# Altium integrated library NSC LDO.IntLib: 2590 symbols (part 35 of 64)
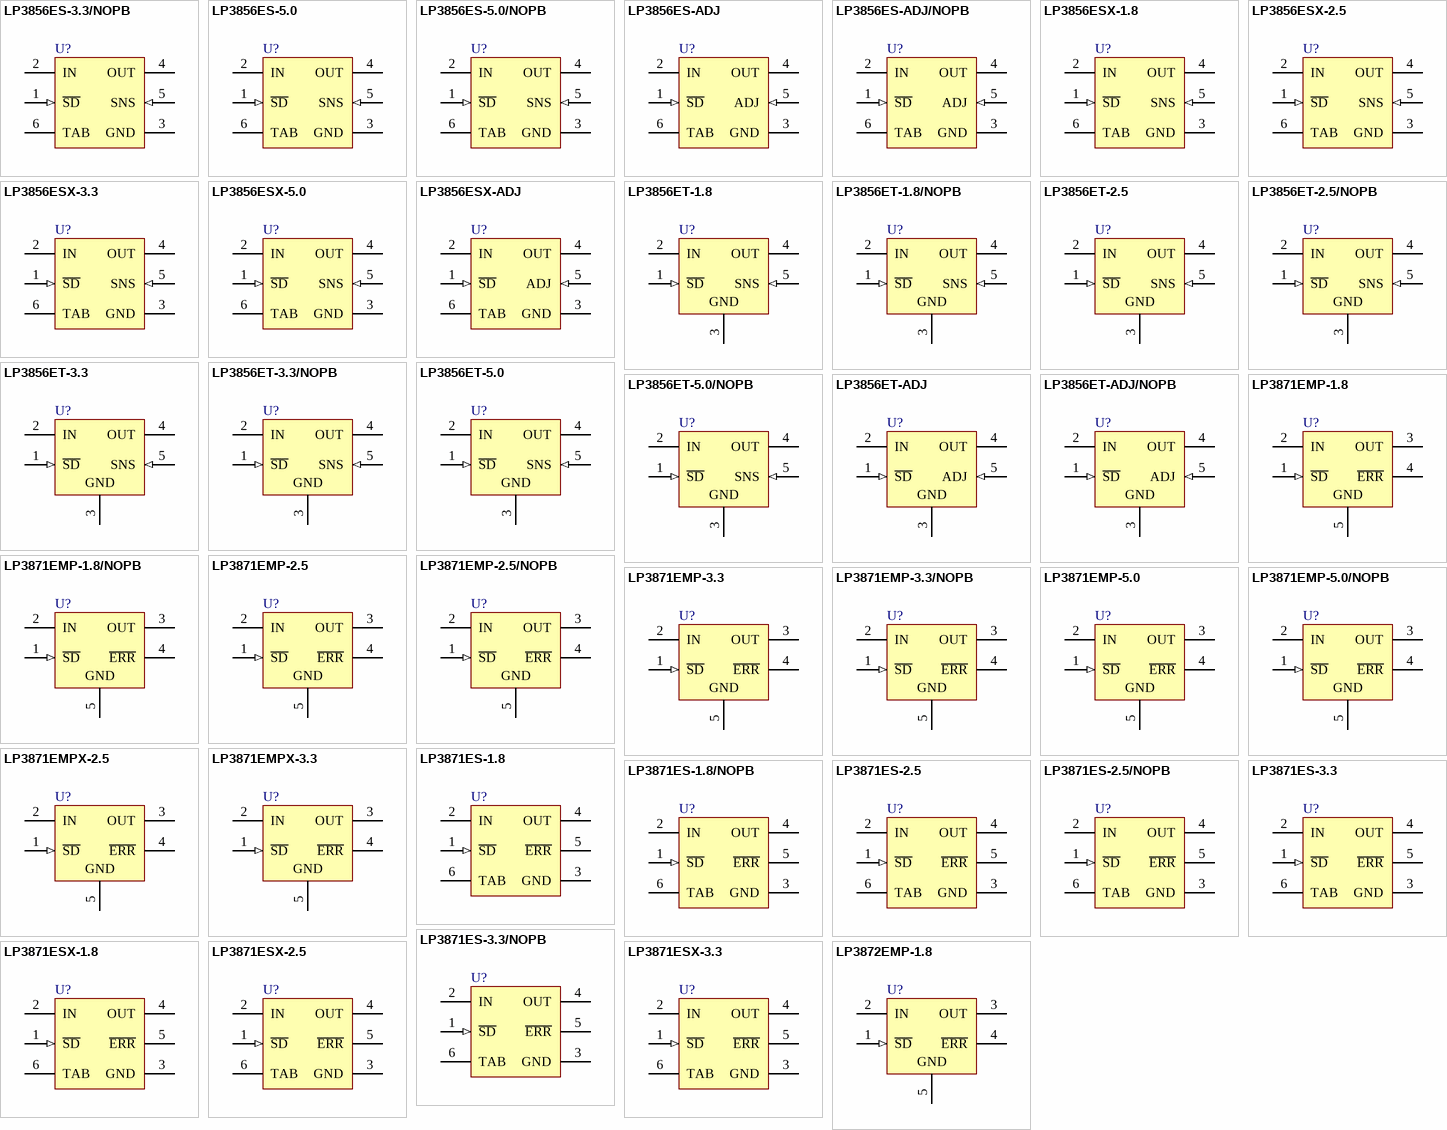
[diagram p99: symbols LP3856ES-3.3/NOPB to LP3872EMP-1.8]

## LP3871EMP-1.8
designator U?
0.8A Fast Ultra Low Dropout Linear Regulators, 5-pin SOT-223; PartNumber: LP3871EMP-1.8; Manufacturer: National Semiconductor; PackageTopMarking: XYTT*LH6B; PowerWise: N; CompType: LDO IC; Published: 4-Dec-2008; DatasheetVersion: Sep-2006; PackageVersion: revA, Jan-2000; PackageReference: MP05A; Publisher: Altium Limited; PackageDescription: Moldec SOT-223, 6.50 x 3.56 x 1.6mm Body, 5 Lead, 1.5mm Pitch; Supplier 1: Farnell; Supplier Part Number 1: 8188220; RoHS: N; PinCount: 5; Code_JEDEC: TO-261-AB; Code_IPC: SOT223-5; ComponentLink1Description: LP3871 Datasheet; ComponentLink1URL: http://www.national.com/ds/LP/LP3871.pdf; ComponentLink2Description: LP3871 Web Page; ComponentLink2URL: http://www.national.com/pf/LP/LP3871.html; ComponentLink3Description: MP05A Package Page; ComponentLink3URL: http://www.national.com/packaging/folders/mp05a.html
footprint MP05A_N (SOT223, 5-Leads, Body 6.5x3.5mm, Pitch 1.5mm, Lead Span 7mm, IPC Medium Density)
footprint MP05A_L (SOT223, 5-Leads, Body 6.5x3.5mm, Pitch 1.5mm, Lead Span 7mm, IPC High Density)
footprint MP05A_M (SOT223, 5-Leads, Body 6.5x3.5mm, Pitch 1.5mm, Lead Span 7mm, IPC Low Density)
pins: 1 ~{SD} (in), 2 IN (power), 3 OUT (power), 4 ~{ERR} (oc), 5 GND (power)

## LP3871EMP-1.8/NOPB
designator U?
0.8A Fast Ultra Low Dropout Linear Regulators, 5-pin SOT-223, Pb-Free; PartNumber: LP3871EMP-1.8/NOPB; Manufacturer: National Semiconductor; PackageTopMarking: XYTT*LH6B; PowerWise: N; CompType: LDO IC; Published: 1-Mar-2010; DatasheetVersion: Sep-2006; PackageVersion: revA, Jan-2000; PackageReference: MP05A; Publisher: Altium Limited; PackageDescription: Moldec SOT-223, 6.50 x 3.56 x 1.6mm Body, 5 Lead, 1.5mm Pitch; Supplier 1: Digi-Key; Supplier Part Number 1: LP3871EMP-1.8TR-ND; Supplier 2: Digi-Key; Supplier Part Number 2: LP3871EMP-1.8CT-ND; Supplier 3: Digi-Key; Supplier Part Number 3: LP3871EMP-1.8DKR-ND; Supplier 4: Farnell; Supplier Part Number 4: 1685721; RoHS: Y; PinCount: 5; Code_JEDEC: TO-261-AB; Code_IPC: SOT223-5; ComponentLink1Description: LP3871 Datasheet; ComponentLink1URL: http://www.national.com/ds/LP/LP3871.pdf; ComponentLink2Description: LP3871 Web Page; ComponentLink2URL: http://www.national.com/pf/LP/LP3871.html; ComponentLink3Description: MP05A Package Page; ComponentLink3URL: http://www.national.com/packaging/folders/mp05a.html
footprint MP05A_N (SOT223, 5-Leads, Body 6.5x3.5mm, Pitch 1.5mm, Lead Span 7mm, IPC Medium Density)
footprint MP05A_L (SOT223, 5-Leads, Body 6.5x3.5mm, Pitch 1.5mm, Lead Span 7mm, IPC High Density)
footprint MP05A_M (SOT223, 5-Leads, Body 6.5x3.5mm, Pitch 1.5mm, Lead Span 7mm, IPC Low Density)
pins: 1 ~{SD} (in), 2 IN (power), 3 OUT (power), 4 ~{ERR} (oc), 5 GND (power)

## LP3871EMP-2.5
designator U?
0.8A Fast Ultra Low Dropout Linear Regulators, 5-pin SOT-223; PartNumber: LP3871EMP-2.5; Manufacturer: National Semiconductor; PackageTopMarking: XYTT*LH7B; PowerWise: N; CompType: LDO IC; Published: 4-Dec-2008; DatasheetVersion: Sep-2006; PackageVersion: revA, Jan-2000; PackageReference: MP05A; Publisher: Altium Limited; PackageDescription: Moldec SOT-223, 6.50 x 3.56 x 1.6mm Body, 5 Lead, 1.5mm Pitch; Supplier 1: Farnell; Supplier Part Number 1: 8188238; RoHS: N; PinCount: 5; Code_JEDEC: TO-261-AB; Code_IPC: SOT223-5; ComponentLink1Description: LP3871 Datasheet; ComponentLink1URL: http://www.national.com/ds/LP/LP3871.pdf; ComponentLink2Description: LP3871 Web Page; ComponentLink2URL: http://www.national.com/pf/LP/LP3871.html; ComponentLink3Description: MP05A Package Page; ComponentLink3URL: http://www.national.com/packaging/folders/mp05a.html
footprint MP05A_N (SOT223, 5-Leads, Body 6.5x3.5mm, Pitch 1.5mm, Lead Span 7mm, IPC Medium Density)
footprint MP05A_L (SOT223, 5-Leads, Body 6.5x3.5mm, Pitch 1.5mm, Lead Span 7mm, IPC High Density)
footprint MP05A_M (SOT223, 5-Leads, Body 6.5x3.5mm, Pitch 1.5mm, Lead Span 7mm, IPC Low Density)
pins: 1 ~{SD} (in), 2 IN (power), 3 OUT (power), 4 ~{ERR} (oc), 5 GND (power)

## LP3871EMP-2.5/NOPB
designator U?
0.8A Fast Ultra Low Dropout Linear Regulators, 5-pin SOT-223, Pb-Free; PartNumber: LP3871EMP-2.5/NOPB; Manufacturer: National Semiconductor; PackageTopMarking: XYTT*LH7B; PowerWise: N; CompType: LDO IC; Published: 1-Mar-2010; DatasheetVersion: Sep-2006; PackageVersion: revA, Jan-2000; PackageReference: MP05A; Publisher: Altium Limited; PackageDescription: Moldec SOT-223, 6.50 x 3.56 x 1.6mm Body, 5 Lead, 1.5mm Pitch; Supplier 1: Digi-Key; Supplier Part Number 1: LP3871EMP-2.5TR-ND; Supplier 2: Digi-Key; Supplier Part Number 2: LP3871EMP-2.5CT-ND; Supplier 3: Digi-Key; Supplier Part Number 3: LP3871EMP-2.5DKR-ND; RoHS: Y; PinCount: 5; Code_JEDEC: TO-261-AB; Code_IPC: SOT223-5; ComponentLink1Description: LP3871 Datasheet; ComponentLink1URL: http://www.national.com/ds/LP/LP3871.pdf; ComponentLink2Description: LP3871 Web Page; ComponentLink2URL: http://www.national.com/pf/LP/LP3871.html; ComponentLink3Description: MP05A Package Page; ComponentLink3URL: http://www.national.com/packaging/folders/mp05a.html
footprint MP05A_N (SOT223, 5-Leads, Body 6.5x3.5mm, Pitch 1.5mm, Lead Span 7mm, IPC Medium Density)
footprint MP05A_L (SOT223, 5-Leads, Body 6.5x3.5mm, Pitch 1.5mm, Lead Span 7mm, IPC High Density)
footprint MP05A_M (SOT223, 5-Leads, Body 6.5x3.5mm, Pitch 1.5mm, Lead Span 7mm, IPC Low Density)
pins: 1 ~{SD} (in), 2 IN (power), 3 OUT (power), 4 ~{ERR} (oc), 5 GND (power)

## LP3871EMP-3.3
designator U?
0.8A Fast Ultra Low Dropout Linear Regulators, 5-pin SOT-223; PartNumber: LP3871EMP-3.3; Manufacturer: National Semiconductor; PackageTopMarking: XYTT*LH8B; PowerWise: N; CompType: LDO IC; Published: 4-Dec-2008; DatasheetVersion: Sep-2006; PackageVersion: revA, Jan-2000; PackageReference: MP05A; Publisher: Altium Limited; PackageDescription: Moldec SOT-223, 6.50 x 3.56 x 1.6mm Body, 5 Lead, 1.5mm Pitch; Supplier 1: Farnell; Supplier Part Number 1: 8188246; RoHS: N; PinCount: 5; Code_JEDEC: TO-261-AB; Code_IPC: SOT223-5; ComponentLink1Description: LP3871 Datasheet; ComponentLink1URL: http://www.national.com/ds/LP/LP3871.pdf; ComponentLink2Description: LP3871 Web Page; ComponentLink2URL: http://www.national.com/pf/LP/LP3871.html; ComponentLink3Description: MP05A Package Page; ComponentLink3URL: http://www.national.com/packaging/folders/mp05a.html
footprint MP05A_N (SOT223, 5-Leads, Body 6.5x3.5mm, Pitch 1.5mm, Lead Span 7mm, IPC Medium Density)
footprint MP05A_L (SOT223, 5-Leads, Body 6.5x3.5mm, Pitch 1.5mm, Lead Span 7mm, IPC High Density)
footprint MP05A_M (SOT223, 5-Leads, Body 6.5x3.5mm, Pitch 1.5mm, Lead Span 7mm, IPC Low Density)
pins: 1 ~{SD} (in), 2 IN (power), 3 OUT (power), 4 ~{ERR} (oc), 5 GND (power)

## LP3871EMP-3.3/NOPB
designator U?
0.8A Fast Ultra Low Dropout Linear Regulators, 5-pin SOT-223, Pb-Free; PartNumber: LP3871EMP-3.3/NOPB; Manufacturer: National Semiconductor; PackageTopMarking: XYTT*LH8B; PowerWise: N; CompType: LDO IC; Published: 1-Mar-2010; DatasheetVersion: Sep-2006; PackageVersion: revA, Jan-2000; PackageReference: MP05A; Publisher: Altium Limited; PackageDescription: Moldec SOT-223, 6.50 x 3.56 x 1.6mm Body, 5 Lead, 1.5mm Pitch; Supplier 1: Digi-Key; Supplier Part Number 1: LP3871EMP-3.3TR-ND; Supplier 2: Digi-Key; Supplier Part Number 2: LP3871EMP-3.3CT-ND; Supplier 3: Digi-Key; Supplier Part Number 3: LP3871EMP-3.3DKR-ND; Supplier 4: Farnell; Supplier Part Number 4: 1559654; RoHS: Y; PinCount: 5; Code_JEDEC: TO-261-AB; Code_IPC: SOT223-5; ComponentLink1Description: LP3871 Datasheet; ComponentLink1URL: http://www.national.com/ds/LP/LP3871.pdf; ComponentLink2Description: LP3871 Web Page; ComponentLink2URL: http://www.national.com/pf/LP/LP3871.html; ComponentLink3Description: MP05A Package Page; ComponentLink3URL: http://www.national.com/packaging/folders/mp05a.html
footprint MP05A_N (SOT223, 5-Leads, Body 6.5x3.5mm, Pitch 1.5mm, Lead Span 7mm, IPC Medium Density)
footprint MP05A_L (SOT223, 5-Leads, Body 6.5x3.5mm, Pitch 1.5mm, Lead Span 7mm, IPC High Density)
footprint MP05A_M (SOT223, 5-Leads, Body 6.5x3.5mm, Pitch 1.5mm, Lead Span 7mm, IPC Low Density)
pins: 1 ~{SD} (in), 2 IN (power), 3 OUT (power), 4 ~{ERR} (oc), 5 GND (power)

## LP3871EMP-5.0
designator U?
0.8A Fast Ultra Low Dropout Linear Regulators, 5-pin SOT-223; PartNumber: LP3871EMP-5.0; Manufacturer: National Semiconductor; PackageTopMarking: XYTT*LH9B; PowerWise: N; CompType: LDO IC; Published: 4-Dec-2008; DatasheetVersion: Sep-2006; PackageVersion: revA, Jan-2000; PackageReference: MP05A; Publisher: Altium Limited; PackageDescription: Moldec SOT-223, 6.50 x 3.56 x 1.6mm Body, 5 Lead, 1.5mm Pitch; Supplier 1: Digi-Key; Supplier Part Number 1: LP3871EMP-5.0TR-ND; Supplier 2: Digi-Key; Supplier Part Number 2: LP3871EMP-5.0CT-ND; Supplier 3: Digi-Key; Supplier Part Number 3: LP3871EMP-5.0DKR-ND; Supplier 4: Farnell; Supplier Part Number 4: 1008285; RoHS: Y; PinCount: 5; Code_JEDEC: TO-261-AB; Code_IPC: SOT223-5; ComponentLink1Description: LP3871 Datasheet; ComponentLink1URL: http://www.national.com/ds/LP/LP3871.pdf; ComponentLink2Description: LP3871 Web Page; ComponentLink2URL: http://www.national.com/pf/LP/LP3871.html; ComponentLink3Description: MP05A Package Page; ComponentLink3URL: http://www.national.com/packaging/folders/mp05a.html
footprint MP05A_N (SOT223, 5-Leads, Body 6.5x3.5mm, Pitch 1.5mm, Lead Span 7mm, IPC Medium Density)
footprint MP05A_L (SOT223, 5-Leads, Body 6.5x3.5mm, Pitch 1.5mm, Lead Span 7mm, IPC High Density)
footprint MP05A_M (SOT223, 5-Leads, Body 6.5x3.5mm, Pitch 1.5mm, Lead Span 7mm, IPC Low Density)
pins: 1 ~{SD} (in), 2 IN (power), 3 OUT (power), 4 ~{ERR} (oc), 5 GND (power)

## LP3871EMP-5.0/NOPB
designator U?
0.8A Fast Ultra Low Dropout Linear Regulators, 5-pin SOT-223, Pb-Free; PartNumber: LP3871EMP-5.0/NOPB; Manufacturer: National Semiconductor; PackageTopMarking: XYTT*LH9B; PowerWise: N; CompType: LDO IC; Published: 1-Mar-2010; DatasheetVersion: Sep-2006; PackageVersion: revA, Jan-2000; PackageReference: MP05A; Publisher: Altium Limited; PackageDescription: Moldec SOT-223, 6.50 x 3.56 x 1.6mm Body, 5 Lead, 1.5mm Pitch; RoHS: Y; PinCount: 5; Code_JEDEC: TO-261-AB; Code_IPC: SOT223-5; ComponentLink1Description: LP3871 Datasheet; ComponentLink1URL: http://www.national.com/ds/LP/LP3871.pdf; ComponentLink2Description: LP3871 Web Page; ComponentLink2URL: http://www.national.com/pf/LP/LP3871.html; ComponentLink3Description: MP05A Package Page; ComponentLink3URL: http://www.national.com/packaging/folders/mp05a.html
footprint MP05A_N (SOT223, 5-Leads, Body 6.5x3.5mm, Pitch 1.5mm, Lead Span 7mm, IPC Medium Density)
footprint MP05A_L (SOT223, 5-Leads, Body 6.5x3.5mm, Pitch 1.5mm, Lead Span 7mm, IPC High Density)
footprint MP05A_M (SOT223, 5-Leads, Body 6.5x3.5mm, Pitch 1.5mm, Lead Span 7mm, IPC Low Density)
pins: 1 ~{SD} (in), 2 IN (power), 3 OUT (power), 4 ~{ERR} (oc), 5 GND (power)

## LP3871EMPX-2.5
designator U?
0.8A Fast Ultra Low Dropout Linear Regulators, 5-pin SOT-223; PartNumber: LP3871EMPX-2.5; Manufacturer: National Semiconductor; PackageTopMarking: XYTT*LH7B; PowerWise: N; CompType: LDO IC; Published: 1-Mar-2010; DatasheetVersion: Sep-2006; PackageVersion: revA, Jan-2000; PackageReference: MP05A; Publisher: Altium Limited; PackageDescription: Moldec SOT-223, 6.50 x 3.56 x 1.6mm Body, 5 Lead, 1.5mm Pitch; RoHS: N; PinCount: 5; Code_JEDEC: TO-261-AB; Code_IPC: SOT223-5; ComponentLink1Description: LP3871 Datasheet; ComponentLink1URL: http://www.national.com/ds/LP/LP3871.pdf; ComponentLink2Description: LP3871 Web Page; ComponentLink2URL: http://www.national.com/pf/LP/LP3871.html; ComponentLink3Description: MP05A Package Page; ComponentLink3URL: http://www.national.com/packaging/folders/mp05a.html
footprint MP05A_N (SOT223, 5-Leads, Body 6.5x3.5mm, Pitch 1.5mm, Lead Span 7mm, IPC Medium Density)
footprint MP05A_L (SOT223, 5-Leads, Body 6.5x3.5mm, Pitch 1.5mm, Lead Span 7mm, IPC High Density)
footprint MP05A_M (SOT223, 5-Leads, Body 6.5x3.5mm, Pitch 1.5mm, Lead Span 7mm, IPC Low Density)
pins: 1 ~{SD} (in), 2 IN (power), 3 OUT (power), 4 ~{ERR} (oc), 5 GND (power)

## LP3871EMPX-3.3
designator U?
0.8A Fast Ultra Low Dropout Linear Regulators, 5-pin SOT-223; PartNumber: LP3871EMPX-3.3; Manufacturer: National Semiconductor; PackageTopMarking: XYTT*LH8B; PowerWise: N; CompType: LDO IC; Published: 1-Mar-2010; DatasheetVersion: Sep-2006; PackageVersion: revA, Jan-2000; PackageReference: MP05A; Publisher: Altium Limited; PackageDescription: Moldec SOT-223, 6.50 x 3.56 x 1.6mm Body, 5 Lead, 1.5mm Pitch; RoHS: N; PinCount: 5; Code_JEDEC: TO-261-AB; Code_IPC: SOT223-5; ComponentLink1Description: LP3871 Datasheet; ComponentLink1URL: http://www.national.com/ds/LP/LP3871.pdf; ComponentLink2Description: LP3871 Web Page; ComponentLink2URL: http://www.national.com/pf/LP/LP3871.html; ComponentLink3Description: MP05A Package Page; ComponentLink3URL: http://www.national.com/packaging/folders/mp05a.html
footprint MP05A_N (SOT223, 5-Leads, Body 6.5x3.5mm, Pitch 1.5mm, Lead Span 7mm, IPC Medium Density)
footprint MP05A_L (SOT223, 5-Leads, Body 6.5x3.5mm, Pitch 1.5mm, Lead Span 7mm, IPC High Density)
footprint MP05A_M (SOT223, 5-Leads, Body 6.5x3.5mm, Pitch 1.5mm, Lead Span 7mm, IPC Low Density)
pins: 1 ~{SD} (in), 2 IN (power), 3 OUT (power), 4 ~{ERR} (oc), 5 GND (power)

## LP3871ES-1.8
designator U?
0.8A Fast Ultra Low Dropout Linear Regulators, 5-pin TO-263; PartNumber: LP3871ES-1.8; Manufacturer: National Semiconductor; PackageTopMarking: NSUZXYTTE#*LP3871ES*-1.8; PowerWise: N; CompType: LDO IC; Published: 4-Dec-2008; DatasheetVersion: Sep-2006; PackageVersion: revD, Apr-2005; PackageReference: TS5B; Publisher: Altium Limited; PackageDescription: TO-263, Molded, .400 x .390 x .180in, 5 Lead, .067in Pitch, Surface Mount; Supplier 1: Farnell; Supplier Part Number 1: 8188254; RoHS: N; PinCount: 5; Code_JEDEC: MO-169-AB; ComponentLink1Description: LP3871 Datasheet; ComponentLink1URL: http://www.national.com/ds/LP/LP3871.pdf; ComponentLink2Description: LP3871 Web Page; ComponentLink2URL: http://www.national.com/pf/LP/LP3871.html; ComponentLink3Description: TS5B Package Page; ComponentLink3URL: http://www.national.com/packaging/folders/ts5b.html
footprint TS5B_N (D2-PAK, 6-Leads, Body 8.6x10.2mm, Pitch 1.7mm, Lead Span 14.1mm, IPC Medium Density)
footprint TS5B_L (D2-PAK, 6-Leads, Body 8.6x10.2mm, Pitch 1.7mm, Lead Span 14.1mm, IPC High Density)
footprint TS5B_M (D2-PAK, 6-Leads, Body 8.6x10.2mm, Pitch 1.7mm, Lead Span 14.1mm, IPC Low Density)
pins: 1 ~{SD} (in), 2 IN (power), 3 GND (power), 4 OUT (power), 5 ~{ERR} (oc), 6 TAB (power)

## LP3871ES-1.8/NOPB
designator U?
0.8A Fast Ultra Low Dropout Linear Regulators, 5-pin TO-263, Pb-Free; PartNumber: LP3871ES-1.8/NOPB; Manufacturer: National Semiconductor; PackageTopMarking: NSUZXYTTE#*LP3871ES*-1.8; PowerWise: N; CompType: LDO IC; Published: 1-Mar-2010; DatasheetVersion: Sep-2006; PackageVersion: revD, Apr-2005; PackageReference: TS5B; Publisher: Altium Limited; PackageDescription: TO-263, Molded, .400 x .390 x .180in, 5 Lead, .067in Pitch, Surface Mount; Supplier 1: Digi-Key; Supplier Part Number 1: LP3871ES-1.8-ND; RoHS: Y; PinCount: 5; Code_JEDEC: MO-169-AB; ComponentLink1Description: LP3871 Datasheet; ComponentLink1URL: http://www.national.com/ds/LP/LP3871.pdf; ComponentLink2Description: LP3871 Web Page; ComponentLink2URL: http://www.national.com/pf/LP/LP3871.html; ComponentLink3Description: TS5B Package Page; ComponentLink3URL: http://www.national.com/packaging/folders/ts5b.html
footprint TS5B_N (D2-PAK, 6-Leads, Body 8.6x10.2mm, Pitch 1.7mm, Lead Span 14.1mm, IPC Medium Density)
footprint TS5B_L (D2-PAK, 6-Leads, Body 8.6x10.2mm, Pitch 1.7mm, Lead Span 14.1mm, IPC High Density)
footprint TS5B_M (D2-PAK, 6-Leads, Body 8.6x10.2mm, Pitch 1.7mm, Lead Span 14.1mm, IPC Low Density)
pins: 1 ~{SD} (in), 2 IN (power), 3 GND (power), 4 OUT (power), 5 ~{ERR} (oc), 6 TAB (power)

## LP3871ES-2.5
designator U?
0.8A Fast Ultra Low Dropout Linear Regulators, 5-pin TO-263; PartNumber: LP3871ES-2.5; Manufacturer: National Semiconductor; PackageTopMarking: NSUZXYTTE#*LP3871ES*-2.5; PowerWise: N; CompType: LDO IC; Published: 4-Dec-2008; DatasheetVersion: Sep-2006; PackageVersion: revD, Apr-2005; PackageReference: TS5B; Publisher: Altium Limited; PackageDescription: TO-263, Molded, .400 x .390 x .180in, 5 Lead, .067in Pitch, Surface Mount; Supplier 1: Farnell; Supplier Part Number 1: 8188262; RoHS: N; PinCount: 5; Code_JEDEC: MO-169-AB; ComponentLink1Description: LP3871 Datasheet; ComponentLink1URL: http://www.national.com/ds/LP/LP3871.pdf; ComponentLink2Description: LP3871 Web Page; ComponentLink2URL: http://www.national.com/pf/LP/LP3871.html; ComponentLink3Description: TS5B Package Page; ComponentLink3URL: http://www.national.com/packaging/folders/ts5b.html
footprint TS5B_N (D2-PAK, 6-Leads, Body 8.6x10.2mm, Pitch 1.7mm, Lead Span 14.1mm, IPC Medium Density)
footprint TS5B_L (D2-PAK, 6-Leads, Body 8.6x10.2mm, Pitch 1.7mm, Lead Span 14.1mm, IPC High Density)
footprint TS5B_M (D2-PAK, 6-Leads, Body 8.6x10.2mm, Pitch 1.7mm, Lead Span 14.1mm, IPC Low Density)
pins: 1 ~{SD} (in), 2 IN (power), 3 GND (power), 4 OUT (power), 5 ~{ERR} (oc), 6 TAB (power)

## LP3871ES-2.5/NOPB
designator U?
0.8A Fast Ultra Low Dropout Linear Regulators, 5-pin TO-263, Pb-Free; PartNumber: LP3871ES-2.5/NOPB; Manufacturer: National Semiconductor; PackageTopMarking: NSUZXYTTE#*LP3871ES*-2.5; PowerWise: N; CompType: LDO IC; Published: 1-Mar-2010; DatasheetVersion: Sep-2006; PackageVersion: revD, Apr-2005; PackageReference: TS5B; Publisher: Altium Limited; PackageDescription: TO-263, Molded, .400 x .390 x .180in, 5 Lead, .067in Pitch, Surface Mount; Supplier 1: Digi-Key; Supplier Part Number 1: LP3871ES-2.5-ND; RoHS: Y; PinCount: 5; Code_JEDEC: MO-169-AB; ComponentLink1Description: LP3871 Datasheet; ComponentLink1URL: http://www.national.com/ds/LP/LP3871.pdf; ComponentLink2Description: LP3871 Web Page; ComponentLink2URL: http://www.national.com/pf/LP/LP3871.html; ComponentLink3Description: TS5B Package Page; ComponentLink3URL: http://www.national.com/packaging/folders/ts5b.html
footprint TS5B_N (D2-PAK, 6-Leads, Body 8.6x10.2mm, Pitch 1.7mm, Lead Span 14.1mm, IPC Medium Density)
footprint TS5B_L (D2-PAK, 6-Leads, Body 8.6x10.2mm, Pitch 1.7mm, Lead Span 14.1mm, IPC High Density)
footprint TS5B_M (D2-PAK, 6-Leads, Body 8.6x10.2mm, Pitch 1.7mm, Lead Span 14.1mm, IPC Low Density)
pins: 1 ~{SD} (in), 2 IN (power), 3 GND (power), 4 OUT (power), 5 ~{ERR} (oc), 6 TAB (power)

## LP3871ES-3.3
designator U?
0.8A Fast Ultra Low Dropout Linear Regulators, 5-pin TO-263; PartNumber: LP3871ES-3.3; Manufacturer: National Semiconductor; PackageTopMarking: NSUZXYTTE#*LP3871ES*-3.3; PowerWise: N; CompType: LDO IC; Published: 4-Dec-2008; DatasheetVersion: Sep-2006; PackageVersion: revD, Apr-2005; PackageReference: TS5B; Publisher: Altium Limited; PackageDescription: TO-263, Molded, .400 x .390 x .180in, 5 Lead, .067in Pitch, Surface Mount; Supplier 1: Farnell; Supplier Part Number 1: 8188270; RoHS: N; PinCount: 5; Code_JEDEC: MO-169-AB; ComponentLink1Description: LP3871 Datasheet; ComponentLink1URL: http://www.national.com/ds/LP/LP3871.pdf; ComponentLink2Description: LP3871 Web Page; ComponentLink2URL: http://www.national.com/pf/LP/LP3871.html; ComponentLink3Description: TS5B Package Page; ComponentLink3URL: http://www.national.com/packaging/folders/ts5b.html
footprint TS5B_N (D2-PAK, 6-Leads, Body 8.6x10.2mm, Pitch 1.7mm, Lead Span 14.1mm, IPC Medium Density)
footprint TS5B_L (D2-PAK, 6-Leads, Body 8.6x10.2mm, Pitch 1.7mm, Lead Span 14.1mm, IPC High Density)
footprint TS5B_M (D2-PAK, 6-Leads, Body 8.6x10.2mm, Pitch 1.7mm, Lead Span 14.1mm, IPC Low Density)
pins: 1 ~{SD} (in), 2 IN (power), 3 GND (power), 4 OUT (power), 5 ~{ERR} (oc), 6 TAB (power)

## LP3871ES-3.3/NOPB
designator U?
0.8A Fast Ultra Low Dropout Linear Regulators, 5-pin TO-263, Pb-Free; PartNumber: LP3871ES-3.3/NOPB; Manufacturer: National Semiconductor; PackageTopMarking: NSUZXYTTE#*LP3871ES*-3.3; PowerWise: N; CompType: LDO IC; Published: 1-Mar-2010; DatasheetVersion: Sep-2006; PackageVersion: revD, Apr-2005; PackageReference: TS5B; Publisher: Altium Limited; PackageDescription: TO-263, Molded, .400 x .390 x .180in, 5 Lead, .067in Pitch, Surface Mount; Supplier 1: Digi-Key; Supplier Part Number 1: LP3871ES-3.3-ND; RoHS: Y; PinCount: 5; Code_JEDEC: MO-169-AB; ComponentLink1Description: LP3871 Datasheet; ComponentLink1URL: http://www.national.com/ds/LP/LP3871.pdf; ComponentLink2Description: LP3871 Web Page; ComponentLink2URL: http://www.national.com/pf/LP/LP3871.html; ComponentLink3Description: TS5B Package Page; ComponentLink3URL: http://www.national.com/packaging/folders/ts5b.html
footprint TS5B_N (D2-PAK, 6-Leads, Body 8.6x10.2mm, Pitch 1.7mm, Lead Span 14.1mm, IPC Medium Density)
footprint TS5B_L (D2-PAK, 6-Leads, Body 8.6x10.2mm, Pitch 1.7mm, Lead Span 14.1mm, IPC High Density)
footprint TS5B_M (D2-PAK, 6-Leads, Body 8.6x10.2mm, Pitch 1.7mm, Lead Span 14.1mm, IPC Low Density)
pins: 1 ~{SD} (in), 2 IN (power), 3 GND (power), 4 OUT (power), 5 ~{ERR} (oc), 6 TAB (power)

## LP3871ESX-1.8
designator U?
0.8A Fast Ultra Low Dropout Linear Regulators, 5-pin TO-263; PartNumber: LP3871ESX-1.8; Manufacturer: National Semiconductor; PackageTopMarking: NSUZXYTTE#*LP3871ES*-1.8; PowerWise: N; CompType: LDO IC; Published: 1-Mar-2010; DatasheetVersion: Sep-2006; PackageVersion: revD, Apr-2005; PackageReference: TS5B; Publisher: Altium Limited; PackageDescription: TO-263, Molded, .400 x .390 x .180in, 5 Lead, .067in Pitch, Surface Mount; RoHS: N; PinCount: 5; Code_JEDEC: MO-169-AB; ComponentLink1Description: LP3871 Datasheet; ComponentLink1URL: http://www.national.com/ds/LP/LP3871.pdf; ComponentLink2Description: LP3871 Web Page; ComponentLink2URL: http://www.national.com/pf/LP/LP3871.html; ComponentLink3Description: TS5B Package Page; ComponentLink3URL: http://www.national.com/packaging/folders/ts5b.html
footprint TS5B_N (D2-PAK, 6-Leads, Body 8.6x10.2mm, Pitch 1.7mm, Lead Span 14.1mm, IPC Medium Density)
footprint TS5B_L (D2-PAK, 6-Leads, Body 8.6x10.2mm, Pitch 1.7mm, Lead Span 14.1mm, IPC High Density)
footprint TS5B_M (D2-PAK, 6-Leads, Body 8.6x10.2mm, Pitch 1.7mm, Lead Span 14.1mm, IPC Low Density)
pins: 1 ~{SD} (in), 2 IN (power), 3 GND (power), 4 OUT (power), 5 ~{ERR} (oc), 6 TAB (power)

## LP3871ESX-2.5
designator U?
0.8A Fast Ultra Low Dropout Linear Regulators, 5-pin TO-263; PartNumber: LP3871ESX-2.5; Manufacturer: National Semiconductor; PackageTopMarking: NSUZXYTTE#*LP3871ES*-2.5; PowerWise: N; CompType: LDO IC; Published: 1-Mar-2010; DatasheetVersion: Sep-2006; PackageVersion: revD, Apr-2005; PackageReference: TS5B; Publisher: Altium Limited; PackageDescription: TO-263, Molded, .400 x .390 x .180in, 5 Lead, .067in Pitch, Surface Mount; RoHS: N; PinCount: 5; Code_JEDEC: MO-169-AB; ComponentLink1Description: LP3871 Datasheet; ComponentLink1URL: http://www.national.com/ds/LP/LP3871.pdf; ComponentLink2Description: LP3871 Web Page; ComponentLink2URL: http://www.national.com/pf/LP/LP3871.html; ComponentLink3Description: TS5B Package Page; ComponentLink3URL: http://www.national.com/packaging/folders/ts5b.html
footprint TS5B_N (D2-PAK, 6-Leads, Body 8.6x10.2mm, Pitch 1.7mm, Lead Span 14.1mm, IPC Medium Density)
footprint TS5B_L (D2-PAK, 6-Leads, Body 8.6x10.2mm, Pitch 1.7mm, Lead Span 14.1mm, IPC High Density)
footprint TS5B_M (D2-PAK, 6-Leads, Body 8.6x10.2mm, Pitch 1.7mm, Lead Span 14.1mm, IPC Low Density)
pins: 1 ~{SD} (in), 2 IN (power), 3 GND (power), 4 OUT (power), 5 ~{ERR} (oc), 6 TAB (power)

## LP3871ESX-3.3
designator U?
0.8A Fast Ultra Low Dropout Linear Regulators, 5-pin TO-263; PartNumber: LP3871ESX-3.3; Manufacturer: National Semiconductor; PackageTopMarking: NSUZXYTTE#*LP3871ES*-3.3; PowerWise: N; CompType: LDO IC; Published: 1-Mar-2010; DatasheetVersion: Sep-2006; PackageVersion: revD, Apr-2005; PackageReference: TS5B; Publisher: Altium Limited; PackageDescription: TO-263, Molded, .400 x .390 x .180in, 5 Lead, .067in Pitch, Surface Mount; RoHS: N; PinCount: 5; Code_JEDEC: MO-169-AB; ComponentLink1Description: LP3871 Datasheet; ComponentLink1URL: http://www.national.com/ds/LP/LP3871.pdf; ComponentLink2Description: LP3871 Web Page; ComponentLink2URL: http://www.national.com/pf/LP/LP3871.html; ComponentLink3Description: TS5B Package Page; ComponentLink3URL: http://www.national.com/packaging/folders/ts5b.html
footprint TS5B_N (D2-PAK, 6-Leads, Body 8.6x10.2mm, Pitch 1.7mm, Lead Span 14.1mm, IPC Medium Density)
footprint TS5B_L (D2-PAK, 6-Leads, Body 8.6x10.2mm, Pitch 1.7mm, Lead Span 14.1mm, IPC High Density)
footprint TS5B_M (D2-PAK, 6-Leads, Body 8.6x10.2mm, Pitch 1.7mm, Lead Span 14.1mm, IPC Low Density)
pins: 1 ~{SD} (in), 2 IN (power), 3 GND (power), 4 OUT (power), 5 ~{ERR} (oc), 6 TAB (power)

## LP3872EMP-1.8
designator U?
1.5A Fast Ultra Low Dropout Linear Regulator, 5-pin SOT-223; PartNumber: LP3872EMP-1.8; Manufacturer: National Semiconductor; PackageTopMarking: XYTT*LHAB; PowerWise: N; CompType: LDO IC; Published: 4-Dec-2008; DatasheetVersion: Sep-2006; PackageVersion: revA, Jan-2000; PackageReference: MP05A; Publisher: Altium Limited; PackageDescription: Moldec SOT-223, 6.50 x 3.56 x 1.6mm Body, 5 Lead, 1.5mm Pitch; Supplier 1: Farnell; Supplier Part Number 1: 8188335; RoHS: N; PinCount: 5; Code_JEDEC: TO-261-AB; Code_IPC: SOT223-5; ComponentLink1Description: LP3872 Datasheet; ComponentLink1URL: http://www.national.com/ds/LP/LP3872.pdf; ComponentLink2Description: LP3872 Web Page; ComponentLink2URL: http://www.national.com/pf/LP/LP3872.html; ComponentLink3Description: MP05A Package Page; ComponentLink3URL: http://www.national.com/packaging/folders/mp05a.html
footprint MP05A_N (SOT223, 5-Leads, Body 6.5x3.5mm, Pitch 1.5mm, Lead Span 7mm, IPC Medium Density)
footprint MP05A_L (SOT223, 5-Leads, Body 6.5x3.5mm, Pitch 1.5mm, Lead Span 7mm, IPC High Density)
footprint MP05A_M (SOT223, 5-Leads, Body 6.5x3.5mm, Pitch 1.5mm, Lead Span 7mm, IPC Low Density)
pins: 1 ~{SD} (in), 2 IN (power), 3 OUT (power), 4 ~{ERR} (oc), 5 GND (power)

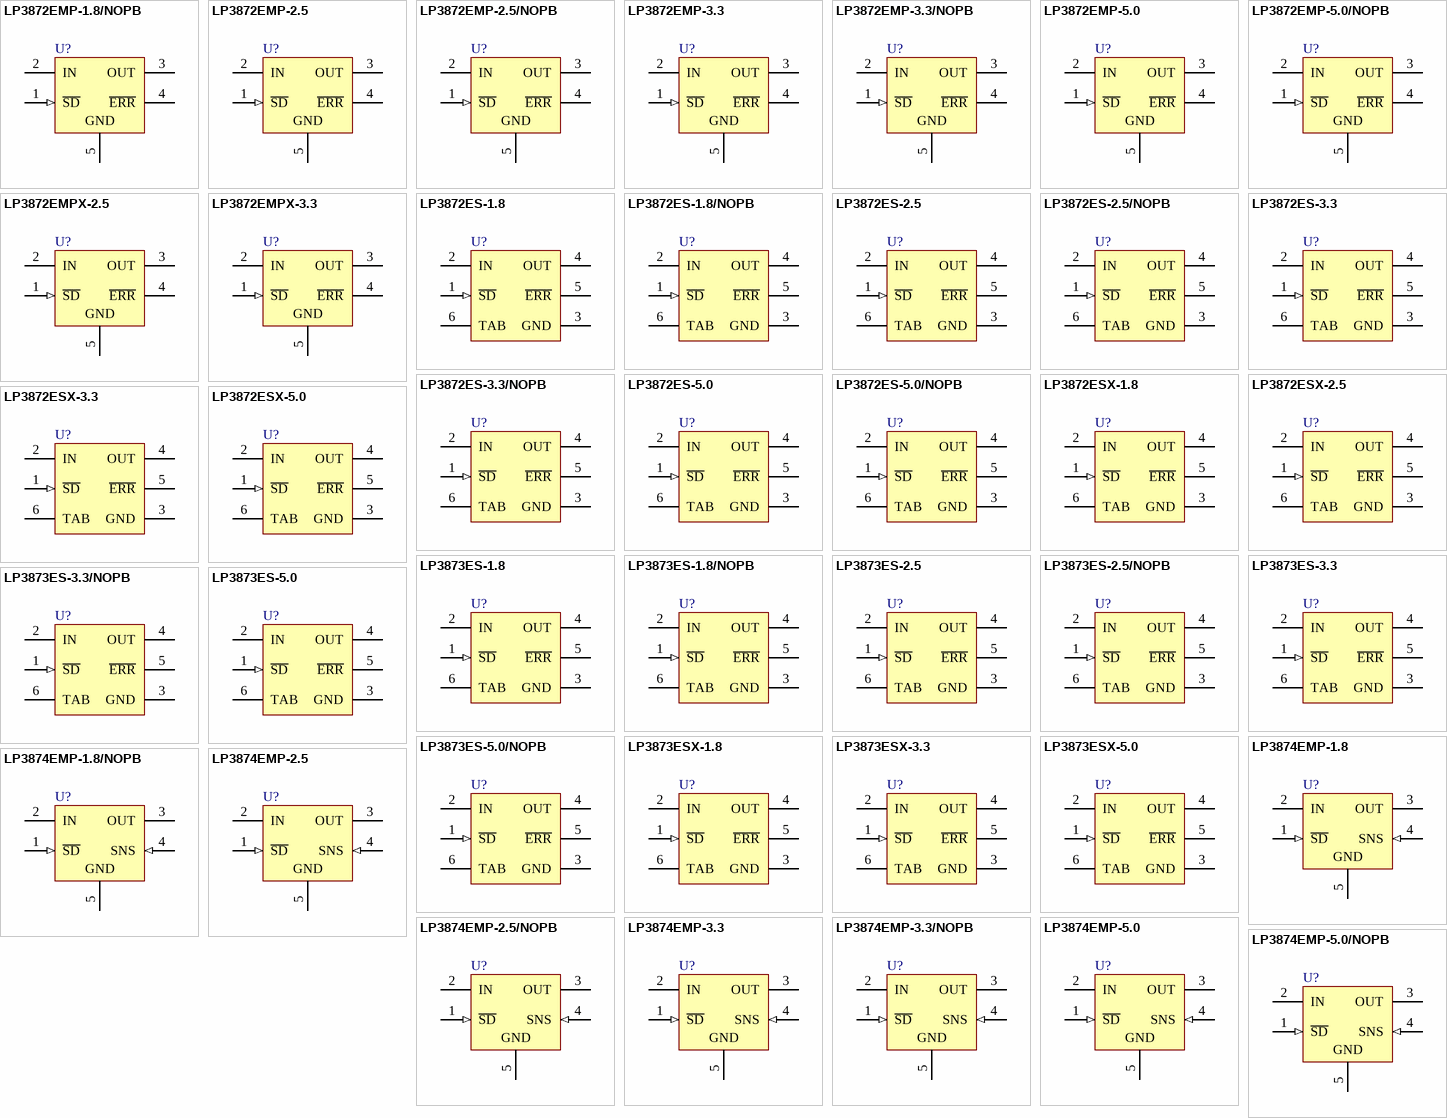
[diagram p36: symbols LP3872EMP-1.8/NOPB to LP3874EMP-5.0/NOPB]

## LP3872EMP-1.8/NOPB
designator U?
1.5A Fast Ultra Low Dropout Linear Regulator, 5-pin SOT-223, Pb-Free; PartNumber: LP3872EMP-1.8/NOPB; Manufacturer: National Semiconductor; PackageTopMarking: XYTT*LHAB; PowerWise: N; CompType: LDO IC; Published: 1-Mar-2010; DatasheetVersion: Sep-2006; PackageVersion: revA, Jan-2000; PackageReference: MP05A; Publisher: Altium Limited; PackageDescription: Moldec SOT-223, 6.50 x 3.56 x 1.6mm Body, 5 Lead, 1.5mm Pitch; Supplier 1: Digi-Key; Supplier Part Number 1: LP3872EMP-1.8TR-ND; Supplier 2: Digi-Key; Supplier Part Number 2: LP3872EMP-1.8CT-ND; Supplier 3: Digi-Key; Supplier Part Number 3: LP3872EMP-1.8DKR-ND; RoHS: Y; PinCount: 5; Code_JEDEC: TO-261-AB; Code_IPC: SOT223-5; ComponentLink1Description: LP3872 Datasheet; ComponentLink1URL: http://www.national.com/ds/LP/LP3872.pdf; ComponentLink2Description: LP3872 Web Page; ComponentLink2URL: http://www.national.com/pf/LP/LP3872.html; ComponentLink3Description: MP05A Package Page; ComponentLink3URL: http://www.national.com/packaging/folders/mp05a.html
footprint MP05A_N (SOT223, 5-Leads, Body 6.5x3.5mm, Pitch 1.5mm, Lead Span 7mm, IPC Medium Density)
footprint MP05A_L (SOT223, 5-Leads, Body 6.5x3.5mm, Pitch 1.5mm, Lead Span 7mm, IPC High Density)
footprint MP05A_M (SOT223, 5-Leads, Body 6.5x3.5mm, Pitch 1.5mm, Lead Span 7mm, IPC Low Density)
pins: 1 ~{SD} (in), 2 IN (power), 3 OUT (power), 4 ~{ERR} (oc), 5 GND (power)

## LP3872EMP-2.5
designator U?
1.5A Fast Ultra Low Dropout Linear Regulator, 5-pin SOT-223; PartNumber: LP3872EMP-2.5; Manufacturer: National Semiconductor; PackageTopMarking: XYTT*LHBB; PowerWise: N; CompType: LDO IC; Published: 4-Dec-2008; DatasheetVersion: Sep-2006; PackageVersion: revA, Jan-2000; PackageReference: MP05A; Publisher: Altium Limited; PackageDescription: Moldec SOT-223, 6.50 x 3.56 x 1.6mm Body, 5 Lead, 1.5mm Pitch; Supplier 1: Farnell; Supplier Part Number 1: 1312621; RoHS: N; PinCount: 5; Code_JEDEC: TO-261-AB; Code_IPC: SOT223-5; ComponentLink1Description: LP3872 Datasheet; ComponentLink1URL: http://www.national.com/ds/LP/LP3872.pdf; ComponentLink2Description: LP3872 Web Page; ComponentLink2URL: http://www.national.com/pf/LP/LP3872.html; ComponentLink3Description: MP05A Package Page; ComponentLink3URL: http://www.national.com/packaging/folders/mp05a.html
footprint MP05A_N (SOT223, 5-Leads, Body 6.5x3.5mm, Pitch 1.5mm, Lead Span 7mm, IPC Medium Density)
footprint MP05A_L (SOT223, 5-Leads, Body 6.5x3.5mm, Pitch 1.5mm, Lead Span 7mm, IPC High Density)
footprint MP05A_M (SOT223, 5-Leads, Body 6.5x3.5mm, Pitch 1.5mm, Lead Span 7mm, IPC Low Density)
pins: 1 ~{SD} (in), 2 IN (power), 3 OUT (power), 4 ~{ERR} (oc), 5 GND (power)

## LP3872EMP-2.5/NOPB
designator U?
1.5A Fast Ultra Low Dropout Linear Regulator, 5-pin SOT-223, Pb-Free; PartNumber: LP3872EMP-2.5/NOPB; Manufacturer: National Semiconductor; PackageTopMarking: XYTT*LHBB; PowerWise: N; CompType: LDO IC; Published: 1-Mar-2010; DatasheetVersion: Sep-2006; PackageVersion: revA, Jan-2000; PackageReference: MP05A; Publisher: Altium Limited; PackageDescription: Moldec SOT-223, 6.50 x 3.56 x 1.6mm Body, 5 Lead, 1.5mm Pitch; Supplier 1: Digi-Key; Supplier Part Number 1: LP3872EMP-2.5TR-ND; Supplier 2: Digi-Key; Supplier Part Number 2: LP3872EMP-2.5CT-ND; Supplier 3: Digi-Key; Supplier Part Number 3: LP3872EMP-2.5DKR-ND; RoHS: Y; PinCount: 5; Code_JEDEC: TO-261-AB; Code_IPC: SOT223-5; ComponentLink1Description: LP3872 Datasheet; ComponentLink1URL: http://www.national.com/ds/LP/LP3872.pdf; ComponentLink2Description: LP3872 Web Page; ComponentLink2URL: http://www.national.com/pf/LP/LP3872.html; ComponentLink3Description: MP05A Package Page; ComponentLink3URL: http://www.national.com/packaging/folders/mp05a.html
footprint MP05A_N (SOT223, 5-Leads, Body 6.5x3.5mm, Pitch 1.5mm, Lead Span 7mm, IPC Medium Density)
footprint MP05A_L (SOT223, 5-Leads, Body 6.5x3.5mm, Pitch 1.5mm, Lead Span 7mm, IPC High Density)
footprint MP05A_M (SOT223, 5-Leads, Body 6.5x3.5mm, Pitch 1.5mm, Lead Span 7mm, IPC Low Density)
pins: 1 ~{SD} (in), 2 IN (power), 3 OUT (power), 4 ~{ERR} (oc), 5 GND (power)

## LP3872EMP-3.3
designator U?
1.5A Fast Ultra Low Dropout Linear Regulator, 5-pin SOT-223; PartNumber: LP3872EMP-3.3; Manufacturer: National Semiconductor; PackageTopMarking: XYTT*LHCB; PowerWise: N; CompType: LDO IC; Published: 4-Dec-2008; DatasheetVersion: Sep-2006; PackageVersion: revA, Jan-2000; PackageReference: MP05A; Publisher: Altium Limited; PackageDescription: Moldec SOT-223, 6.50 x 3.56 x 1.6mm Body, 5 Lead, 1.5mm Pitch; Supplier 1: Farnell; Supplier Part Number 1: 8188343; RoHS: N; PinCount: 5; Code_JEDEC: TO-261-AB; Code_IPC: SOT223-5; ComponentLink1Description: LP3872 Datasheet; ComponentLink1URL: http://www.national.com/ds/LP/LP3872.pdf; ComponentLink2Description: LP3872 Web Page; ComponentLink2URL: http://www.national.com/pf/LP/LP3872.html; ComponentLink3Description: MP05A Package Page; ComponentLink3URL: http://www.national.com/packaging/folders/mp05a.html
footprint MP05A_N (SOT223, 5-Leads, Body 6.5x3.5mm, Pitch 1.5mm, Lead Span 7mm, IPC Medium Density)
footprint MP05A_L (SOT223, 5-Leads, Body 6.5x3.5mm, Pitch 1.5mm, Lead Span 7mm, IPC High Density)
footprint MP05A_M (SOT223, 5-Leads, Body 6.5x3.5mm, Pitch 1.5mm, Lead Span 7mm, IPC Low Density)
pins: 1 ~{SD} (in), 2 IN (power), 3 OUT (power), 4 ~{ERR} (oc), 5 GND (power)

## LP3872EMP-3.3/NOPB
designator U?
1.5A Fast Ultra Low Dropout Linear Regulator, 5-pin SOT-223, Pb-Free; PartNumber: LP3872EMP-3.3/NOPB; Manufacturer: National Semiconductor; PackageTopMarking: XYTT*LHCB; PowerWise: N; CompType: LDO IC; Published: 1-Mar-2010; DatasheetVersion: Sep-2006; PackageVersion: revA, Jan-2000; PackageReference: MP05A; Publisher: Altium Limited; PackageDescription: Moldec SOT-223, 6.50 x 3.56 x 1.6mm Body, 5 Lead, 1.5mm Pitch; Supplier 1: Digi-Key; Supplier Part Number 1: LP3872EMP-3.3TR-ND; Supplier 2: Digi-Key; Supplier Part Number 2: LP3872EMP-3.3CT-ND; Supplier 3: Digi-Key; Supplier Part Number 3: LP3872EMP-3.3DKR-ND; Supplier 4: Farnell; Supplier Part Number 4: 1559657; RoHS: Y; PinCount: 5; Code_JEDEC: TO-261-AB; Code_IPC: SOT223-5; ComponentLink1Description: LP3872 Datasheet; ComponentLink1URL: http://www.national.com/ds/LP/LP3872.pdf; ComponentLink2Description: LP3872 Web Page; ComponentLink2URL: http://www.national.com/pf/LP/LP3872.html; ComponentLink3Description: MP05A Package Page; ComponentLink3URL: http://www.national.com/packaging/folders/mp05a.html
footprint MP05A_N (SOT223, 5-Leads, Body 6.5x3.5mm, Pitch 1.5mm, Lead Span 7mm, IPC Medium Density)
footprint MP05A_L (SOT223, 5-Leads, Body 6.5x3.5mm, Pitch 1.5mm, Lead Span 7mm, IPC High Density)
footprint MP05A_M (SOT223, 5-Leads, Body 6.5x3.5mm, Pitch 1.5mm, Lead Span 7mm, IPC Low Density)
pins: 1 ~{SD} (in), 2 IN (power), 3 OUT (power), 4 ~{ERR} (oc), 5 GND (power)

## LP3872EMP-5.0
designator U?
1.5A Fast Ultra Low Dropout Linear Regulator, 5-pin SOT-223; PartNumber: LP3872EMP-5.0; Manufacturer: National Semiconductor; PackageTopMarking: XYTT*LHDB; PowerWise: N; CompType: LDO IC; Published: 4-Dec-2008; DatasheetVersion: Sep-2006; PackageVersion: revA, Jan-2000; PackageReference: MP05A; Publisher: Altium Limited; PackageDescription: Moldec SOT-223, 6.50 x 3.56 x 1.6mm Body, 5 Lead, 1.5mm Pitch; Supplier 1: Farnell; Supplier Part Number 1: 8188351; RoHS: N; PinCount: 5; Code_JEDEC: TO-261-AB; Code_IPC: SOT223-5; ComponentLink1Description: LP3872 Datasheet; ComponentLink1URL: http://www.national.com/ds/LP/LP3872.pdf; ComponentLink2Description: LP3872 Web Page; ComponentLink2URL: http://www.national.com/pf/LP/LP3872.html; ComponentLink3Description: MP05A Package Page; ComponentLink3URL: http://www.national.com/packaging/folders/mp05a.html
footprint MP05A_N (SOT223, 5-Leads, Body 6.5x3.5mm, Pitch 1.5mm, Lead Span 7mm, IPC Medium Density)
footprint MP05A_L (SOT223, 5-Leads, Body 6.5x3.5mm, Pitch 1.5mm, Lead Span 7mm, IPC High Density)
footprint MP05A_M (SOT223, 5-Leads, Body 6.5x3.5mm, Pitch 1.5mm, Lead Span 7mm, IPC Low Density)
pins: 1 ~{SD} (in), 2 IN (power), 3 OUT (power), 4 ~{ERR} (oc), 5 GND (power)

## LP3872EMP-5.0/NOPB
designator U?
1.5A Fast Ultra Low Dropout Linear Regulator, 5-pin SOT-223, Pb-Free; PartNumber: LP3872EMP-5.0/NOPB; Manufacturer: National Semiconductor; PackageTopMarking: XYTT*LHDB; PowerWise: N; CompType: LDO IC; Published: 1-Mar-2010; DatasheetVersion: Sep-2006; PackageVersion: revA, Jan-2000; PackageReference: MP05A; Publisher: Altium Limited; PackageDescription: Moldec SOT-223, 6.50 x 3.56 x 1.6mm Body, 5 Lead, 1.5mm Pitch; Supplier 1: Digi-Key; Supplier Part Number 1: LP3872EMP-5.0TR-ND; Supplier 2: Digi-Key; Supplier Part Number 2: LP3872EMP-5.0CT-ND; Supplier 3: Digi-Key; Supplier Part Number 3: LP3872EMP-5.0DKR-ND; RoHS: Y; PinCount: 5; Code_JEDEC: TO-261-AB; Code_IPC: SOT223-5; ComponentLink1Description: LP3872 Datasheet; ComponentLink1URL: http://www.national.com/ds/LP/LP3872.pdf; ComponentLink2Description: LP3872 Web Page; ComponentLink2URL: http://www.national.com/pf/LP/LP3872.html; ComponentLink3Description: MP05A Package Page; ComponentLink3URL: http://www.national.com/packaging/folders/mp05a.html
footprint MP05A_N (SOT223, 5-Leads, Body 6.5x3.5mm, Pitch 1.5mm, Lead Span 7mm, IPC Medium Density)
footprint MP05A_L (SOT223, 5-Leads, Body 6.5x3.5mm, Pitch 1.5mm, Lead Span 7mm, IPC High Density)
footprint MP05A_M (SOT223, 5-Leads, Body 6.5x3.5mm, Pitch 1.5mm, Lead Span 7mm, IPC Low Density)
pins: 1 ~{SD} (in), 2 IN (power), 3 OUT (power), 4 ~{ERR} (oc), 5 GND (power)

## LP3872EMPX-2.5
designator U?
1.5A Fast Ultra Low Dropout Linear Regulator, 5-pin SOT-223; PartNumber: LP3872EMPX-2.5; Manufacturer: National Semiconductor; PackageTopMarking: XYTT*LHBB; PowerWise: N; CompType: LDO IC; Published: 1-Mar-2010; DatasheetVersion: Sep-2006; PackageVersion: revA, Jan-2000; PackageReference: MP05A; Publisher: Altium Limited; PackageDescription: Moldec SOT-223, 6.50 x 3.56 x 1.6mm Body, 5 Lead, 1.5mm Pitch; Supplier 1: Farnell; Supplier Part Number 1: 8238995; RoHS: N; PinCount: 5; Code_JEDEC: TO-261-AB; Code_IPC: SOT223-5; ComponentLink1Description: LP3872 Datasheet; ComponentLink1URL: http://www.national.com/ds/LP/LP3872.pdf; ComponentLink2Description: LP3872 Web Page; ComponentLink2URL: http://www.national.com/pf/LP/LP3872.html; ComponentLink3Description: MP05A Package Page; ComponentLink3URL: http://www.national.com/packaging/folders/mp05a.html
footprint MP05A_N (SOT223, 5-Leads, Body 6.5x3.5mm, Pitch 1.5mm, Lead Span 7mm, IPC Medium Density)
footprint MP05A_L (SOT223, 5-Leads, Body 6.5x3.5mm, Pitch 1.5mm, Lead Span 7mm, IPC High Density)
footprint MP05A_M (SOT223, 5-Leads, Body 6.5x3.5mm, Pitch 1.5mm, Lead Span 7mm, IPC Low Density)
pins: 1 ~{SD} (in), 2 IN (power), 3 OUT (power), 4 ~{ERR} (oc), 5 GND (power)

## LP3872EMPX-3.3
designator U?
1.5A Fast Ultra Low Dropout Linear Regulator, 5-pin SOT-223; PartNumber: LP3872EMPX-3.3; Manufacturer: National Semiconductor; PackageTopMarking: XYTT*LHCB; PowerWise: N; CompType: LDO IC; Published: 1-Mar-2010; DatasheetVersion: Sep-2006; PackageVersion: revA, Jan-2000; PackageReference: MP05A; Publisher: Altium Limited; PackageDescription: Moldec SOT-223, 6.50 x 3.56 x 1.6mm Body, 5 Lead, 1.5mm Pitch; RoHS: N; PinCount: 5; Code_JEDEC: TO-261-AB; Code_IPC: SOT223-5; ComponentLink1Description: LP3872 Datasheet; ComponentLink1URL: http://www.national.com/ds/LP/LP3872.pdf; ComponentLink2Description: LP3872 Web Page; ComponentLink2URL: http://www.national.com/pf/LP/LP3872.html; ComponentLink3Description: MP05A Package Page; ComponentLink3URL: http://www.national.com/packaging/folders/mp05a.html
footprint MP05A_N (SOT223, 5-Leads, Body 6.5x3.5mm, Pitch 1.5mm, Lead Span 7mm, IPC Medium Density)
footprint MP05A_L (SOT223, 5-Leads, Body 6.5x3.5mm, Pitch 1.5mm, Lead Span 7mm, IPC High Density)
footprint MP05A_M (SOT223, 5-Leads, Body 6.5x3.5mm, Pitch 1.5mm, Lead Span 7mm, IPC Low Density)
pins: 1 ~{SD} (in), 2 IN (power), 3 OUT (power), 4 ~{ERR} (oc), 5 GND (power)

## LP3872ES-1.8
designator U?
1.5A Fast Ultra Low Dropout Linear Regulator, 5-pin TO-263; PartNumber: LP3872ES-1.8; Manufacturer: National Semiconductor; PackageTopMarking: NSUZXYTTE#*LP3872ES*-1.8; PowerWise: N; CompType: LDO IC; Published: 4-Dec-2008; DatasheetVersion: Sep-2006; PackageVersion: revD, Apr-2005; PackageReference: TS5B; Publisher: Altium Limited; PackageDescription: TO-263, Molded, .400 x .390 x .180in, 5 Lead, .067in Pitch, Surface Mount; Supplier 1: Farnell; Supplier Part Number 1: 8188360; RoHS: N; PinCount: 5; Code_JEDEC: MO-169-AB; ComponentLink1Description: LP3872 Datasheet; ComponentLink1URL: http://www.national.com/ds/LP/LP3872.pdf; ComponentLink2Description: LP3872 Web Page; ComponentLink2URL: http://www.national.com/pf/LP/LP3872.html; ComponentLink3Description: TS5B Package Page; ComponentLink3URL: http://www.national.com/packaging/folders/ts5b.html
footprint TS5B_N (D2-PAK, 6-Leads, Body 8.6x10.2mm, Pitch 1.7mm, Lead Span 14.1mm, IPC Medium Density)
footprint TS5B_L (D2-PAK, 6-Leads, Body 8.6x10.2mm, Pitch 1.7mm, Lead Span 14.1mm, IPC High Density)
footprint TS5B_M (D2-PAK, 6-Leads, Body 8.6x10.2mm, Pitch 1.7mm, Lead Span 14.1mm, IPC Low Density)
pins: 1 ~{SD} (in), 2 IN (power), 3 GND (power), 4 OUT (power), 5 ~{ERR} (oc), 6 TAB (power)

## LP3872ES-1.8/NOPB
designator U?
1.5A Fast Ultra Low Dropout Linear Regulator, 5-pin TO-263, Pb-Free; PartNumber: LP3872ES-1.8/NOPB; Manufacturer: National Semiconductor; PackageTopMarking: NSUZXYTTE#*LP3872ES*-1.8; PowerWise: N; CompType: LDO IC; Published: 1-Mar-2010; DatasheetVersion: Sep-2006; PackageVersion: revD, Apr-2005; PackageReference: TS5B; Publisher: Altium Limited; PackageDescription: TO-263, Molded, .400 x .390 x .180in, 5 Lead, .067in Pitch, Surface Mount; Supplier 1: Digi-Key; Supplier Part Number 1: LP3872ES-1.8-ND; Supplier 2: Farnell; Supplier Part Number 2: 1685722; RoHS: Y; PinCount: 5; Code_JEDEC: MO-169-AB; ComponentLink1Description: LP3872 Datasheet; ComponentLink1URL: http://www.national.com/ds/LP/LP3872.pdf; ComponentLink2Description: LP3872 Web Page; ComponentLink2URL: http://www.national.com/pf/LP/LP3872.html; ComponentLink3Description: TS5B Package Page; ComponentLink3URL: http://www.national.com/packaging/folders/ts5b.html
footprint TS5B_N (D2-PAK, 6-Leads, Body 8.6x10.2mm, Pitch 1.7mm, Lead Span 14.1mm, IPC Medium Density)
footprint TS5B_L (D2-PAK, 6-Leads, Body 8.6x10.2mm, Pitch 1.7mm, Lead Span 14.1mm, IPC High Density)
footprint TS5B_M (D2-PAK, 6-Leads, Body 8.6x10.2mm, Pitch 1.7mm, Lead Span 14.1mm, IPC Low Density)
pins: 1 ~{SD} (in), 2 IN (power), 3 GND (power), 4 OUT (power), 5 ~{ERR} (oc), 6 TAB (power)

## LP3872ES-2.5
designator U?
1.5A Fast Ultra Low Dropout Linear Regulator, 5-pin TO-263; PartNumber: LP3872ES-2.5; Manufacturer: National Semiconductor; PackageTopMarking: NSUZXYTTE#*LP3872ES*-2.5; PowerWise: N; CompType: LDO IC; Published: 4-Dec-2008; DatasheetVersion: Sep-2006; PackageVersion: revD, Apr-2005; PackageReference: TS5B; Publisher: Altium Limited; PackageDescription: TO-263, Molded, .400 x .390 x .180in, 5 Lead, .067in Pitch, Surface Mount; Supplier 1: Farnell; Supplier Part Number 1: 8188378; RoHS: N; PinCount: 5; Code_JEDEC: MO-169-AB; ComponentLink1Description: LP3872 Datasheet; ComponentLink1URL: http://www.national.com/ds/LP/LP3872.pdf; ComponentLink2Description: LP3872 Web Page; ComponentLink2URL: http://www.national.com/pf/LP/LP3872.html; ComponentLink3Description: TS5B Package Page; ComponentLink3URL: http://www.national.com/packaging/folders/ts5b.html
footprint TS5B_N (D2-PAK, 6-Leads, Body 8.6x10.2mm, Pitch 1.7mm, Lead Span 14.1mm, IPC Medium Density)
footprint TS5B_L (D2-PAK, 6-Leads, Body 8.6x10.2mm, Pitch 1.7mm, Lead Span 14.1mm, IPC High Density)
footprint TS5B_M (D2-PAK, 6-Leads, Body 8.6x10.2mm, Pitch 1.7mm, Lead Span 14.1mm, IPC Low Density)
pins: 1 ~{SD} (in), 2 IN (power), 3 GND (power), 4 OUT (power), 5 ~{ERR} (oc), 6 TAB (power)

## LP3872ES-2.5/NOPB
designator U?
1.5A Fast Ultra Low Dropout Linear Regulator, 5-pin TO-263, Pb-Free; PartNumber: LP3872ES-2.5/NOPB; Manufacturer: National Semiconductor; PackageTopMarking: NSUZXYTTE#*LP3872ES*-2.5; PowerWise: N; CompType: LDO IC; Published: 1-Mar-2010; DatasheetVersion: Sep-2006; PackageVersion: revD, Apr-2005; PackageReference: TS5B; Publisher: Altium Limited; PackageDescription: TO-263, Molded, .400 x .390 x .180in, 5 Lead, .067in Pitch, Surface Mount; Supplier 1: Digi-Key; Supplier Part Number 1: LP3872ES-2.5-ND; RoHS: Y; PinCount: 5; Code_JEDEC: MO-169-AB; ComponentLink1Description: LP3872 Datasheet; ComponentLink1URL: http://www.national.com/ds/LP/LP3872.pdf; ComponentLink2Description: LP3872 Web Page; ComponentLink2URL: http://www.national.com/pf/LP/LP3872.html; ComponentLink3Description: TS5B Package Page; ComponentLink3URL: http://www.national.com/packaging/folders/ts5b.html
footprint TS5B_N (D2-PAK, 6-Leads, Body 8.6x10.2mm, Pitch 1.7mm, Lead Span 14.1mm, IPC Medium Density)
footprint TS5B_L (D2-PAK, 6-Leads, Body 8.6x10.2mm, Pitch 1.7mm, Lead Span 14.1mm, IPC High Density)
footprint TS5B_M (D2-PAK, 6-Leads, Body 8.6x10.2mm, Pitch 1.7mm, Lead Span 14.1mm, IPC Low Density)
pins: 1 ~{SD} (in), 2 IN (power), 3 GND (power), 4 OUT (power), 5 ~{ERR} (oc), 6 TAB (power)

## LP3872ES-3.3
designator U?
1.5A Fast Ultra Low Dropout Linear Regulator, 5-pin TO-263; PartNumber: LP3872ES-3.3; Manufacturer: National Semiconductor; PackageTopMarking: NSUZXYTTE#*LP3872ES*-3.3; PowerWise: N; CompType: LDO IC; Published: 4-Dec-2008; DatasheetVersion: Sep-2006; PackageVersion: revD, Apr-2005; PackageReference: TS5B; Publisher: Altium Limited; PackageDescription: TO-263, Molded, .400 x .390 x .180in, 5 Lead, .067in Pitch, Surface Mount; Supplier 1: Farnell; Supplier Part Number 1: 8188386; RoHS: N; PinCount: 5; Code_JEDEC: MO-169-AB; ComponentLink1Description: LP3872 Datasheet; ComponentLink1URL: http://www.national.com/ds/LP/LP3872.pdf; ComponentLink2Description: LP3872 Web Page; ComponentLink2URL: http://www.national.com/pf/LP/LP3872.html; ComponentLink3Description: TS5B Package Page; ComponentLink3URL: http://www.national.com/packaging/folders/ts5b.html
footprint TS5B_N (D2-PAK, 6-Leads, Body 8.6x10.2mm, Pitch 1.7mm, Lead Span 14.1mm, IPC Medium Density)
footprint TS5B_L (D2-PAK, 6-Leads, Body 8.6x10.2mm, Pitch 1.7mm, Lead Span 14.1mm, IPC High Density)
footprint TS5B_M (D2-PAK, 6-Leads, Body 8.6x10.2mm, Pitch 1.7mm, Lead Span 14.1mm, IPC Low Density)
pins: 1 ~{SD} (in), 2 IN (power), 3 GND (power), 4 OUT (power), 5 ~{ERR} (oc), 6 TAB (power)

## LP3872ES-3.3/NOPB
designator U?
1.5A Fast Ultra Low Dropout Linear Regulator, 5-pin TO-263, Pb-Free; PartNumber: LP3872ES-3.3/NOPB; Manufacturer: National Semiconductor; PackageTopMarking: NSUZXYTTE#*LP3872ES*-3.3; PowerWise: N; CompType: LDO IC; Published: 1-Mar-2010; DatasheetVersion: Sep-2006; PackageVersion: revD, Apr-2005; PackageReference: TS5B; Publisher: Altium Limited; PackageDescription: TO-263, Molded, .400 x .390 x .180in, 5 Lead, .067in Pitch, Surface Mount; Supplier 1: Digi-Key; Supplier Part Number 1: LP3872ES-3.3-ND; Supplier 2: Farnell; Supplier Part Number 2: 1559659; RoHS: Y; PinCount: 5; Code_JEDEC: MO-169-AB; ComponentLink1Description: LP3872 Datasheet; ComponentLink1URL: http://www.national.com/ds/LP/LP3872.pdf; ComponentLink2Description: LP3872 Web Page; ComponentLink2URL: http://www.national.com/pf/LP/LP3872.html; ComponentLink3Description: TS5B Package Page; ComponentLink3URL: http://www.national.com/packaging/folders/ts5b.html
footprint TS5B_N (D2-PAK, 6-Leads, Body 8.6x10.2mm, Pitch 1.7mm, Lead Span 14.1mm, IPC Medium Density)
footprint TS5B_L (D2-PAK, 6-Leads, Body 8.6x10.2mm, Pitch 1.7mm, Lead Span 14.1mm, IPC High Density)
footprint TS5B_M (D2-PAK, 6-Leads, Body 8.6x10.2mm, Pitch 1.7mm, Lead Span 14.1mm, IPC Low Density)
pins: 1 ~{SD} (in), 2 IN (power), 3 GND (power), 4 OUT (power), 5 ~{ERR} (oc), 6 TAB (power)

## LP3872ES-5.0
designator U?
1.5A Fast Ultra Low Dropout Linear Regulator, 5-pin TO-263; PartNumber: LP3872ES-5.0; Manufacturer: National Semiconductor; PackageTopMarking: NSUZXYTTE#*LP3872ES*-5.0; PowerWise: N; CompType: LDO IC; Published: 4-Dec-2008; DatasheetVersion: Sep-2006; PackageVersion: revD, Apr-2005; PackageReference: TS5B; Publisher: Altium Limited; PackageDescription: TO-263, Molded, .400 x .390 x .180in, 5 Lead, .067in Pitch, Surface Mount; Supplier 1: Farnell; Supplier Part Number 1: 8188394; RoHS: N; PinCount: 5; Code_JEDEC: MO-169-AB; ComponentLink1Description: LP3872 Datasheet; ComponentLink1URL: http://www.national.com/ds/LP/LP3872.pdf; ComponentLink2Description: LP3872 Web Page; ComponentLink2URL: http://www.national.com/pf/LP/LP3872.html; ComponentLink3Description: TS5B Package Page; ComponentLink3URL: http://www.national.com/packaging/folders/ts5b.html
footprint TS5B_N (D2-PAK, 6-Leads, Body 8.6x10.2mm, Pitch 1.7mm, Lead Span 14.1mm, IPC Medium Density)
footprint TS5B_L (D2-PAK, 6-Leads, Body 8.6x10.2mm, Pitch 1.7mm, Lead Span 14.1mm, IPC High Density)
footprint TS5B_M (D2-PAK, 6-Leads, Body 8.6x10.2mm, Pitch 1.7mm, Lead Span 14.1mm, IPC Low Density)
pins: 1 ~{SD} (in), 2 IN (power), 3 GND (power), 4 OUT (power), 5 ~{ERR} (oc), 6 TAB (power)

## LP3872ES-5.0/NOPB
designator U?
1.5A Fast Ultra Low Dropout Linear Regulator, 5-pin TO-263, Pb-Free; PartNumber: LP3872ES-5.0/NOPB; Manufacturer: National Semiconductor; PackageTopMarking: NSUZXYTTE#*LP3872ES*-5.0; PowerWise: N; CompType: LDO IC; Published: 1-Mar-2010; DatasheetVersion: Sep-2006; PackageVersion: revD, Apr-2005; PackageReference: TS5B; Publisher: Altium Limited; PackageDescription: TO-263, Molded, .400 x .390 x .180in, 5 Lead, .067in Pitch, Surface Mount; Supplier 1: Digi-Key; Supplier Part Number 1: LP3872ES-5.0-ND; RoHS: Y; PinCount: 5; Code_JEDEC: MO-169-AB; ComponentLink1Description: LP3872 Datasheet; ComponentLink1URL: http://www.national.com/ds/LP/LP3872.pdf; ComponentLink2Description: LP3872 Web Page; ComponentLink2URL: http://www.national.com/pf/LP/LP3872.html; ComponentLink3Description: TS5B Package Page; ComponentLink3URL: http://www.national.com/packaging/folders/ts5b.html
footprint TS5B_N (D2-PAK, 6-Leads, Body 8.6x10.2mm, Pitch 1.7mm, Lead Span 14.1mm, IPC Medium Density)
footprint TS5B_L (D2-PAK, 6-Leads, Body 8.6x10.2mm, Pitch 1.7mm, Lead Span 14.1mm, IPC High Density)
footprint TS5B_M (D2-PAK, 6-Leads, Body 8.6x10.2mm, Pitch 1.7mm, Lead Span 14.1mm, IPC Low Density)
pins: 1 ~{SD} (in), 2 IN (power), 3 GND (power), 4 OUT (power), 5 ~{ERR} (oc), 6 TAB (power)

## LP3872ESX-1.8
designator U?
1.5A Fast Ultra Low Dropout Linear Regulator, 5-pin TO-263; PartNumber: LP3872ESX-1.8; Manufacturer: National Semiconductor; PackageTopMarking: NSUZXYTTE#*LP3872ES*-1.8; PowerWise: N; CompType: LDO IC; Published: 1-Mar-2010; DatasheetVersion: Sep-2006; PackageVersion: revD, Apr-2005; PackageReference: TS5B; Publisher: Altium Limited; PackageDescription: TO-263, Molded, .400 x .390 x .180in, 5 Lead, .067in Pitch, Surface Mount; RoHS: N; PinCount: 5; Code_JEDEC: MO-169-AB; ComponentLink1Description: LP3872 Datasheet; ComponentLink1URL: http://www.national.com/ds/LP/LP3872.pdf; ComponentLink2Description: LP3872 Web Page; ComponentLink2URL: http://www.national.com/pf/LP/LP3872.html; ComponentLink3Description: TS5B Package Page; ComponentLink3URL: http://www.national.com/packaging/folders/ts5b.html
footprint TS5B_N (D2-PAK, 6-Leads, Body 8.6x10.2mm, Pitch 1.7mm, Lead Span 14.1mm, IPC Medium Density)
footprint TS5B_L (D2-PAK, 6-Leads, Body 8.6x10.2mm, Pitch 1.7mm, Lead Span 14.1mm, IPC High Density)
footprint TS5B_M (D2-PAK, 6-Leads, Body 8.6x10.2mm, Pitch 1.7mm, Lead Span 14.1mm, IPC Low Density)
pins: 1 ~{SD} (in), 2 IN (power), 3 GND (power), 4 OUT (power), 5 ~{ERR} (oc), 6 TAB (power)